# EAGLE library part BUCK-TS30011-12-13 (library TS30013)
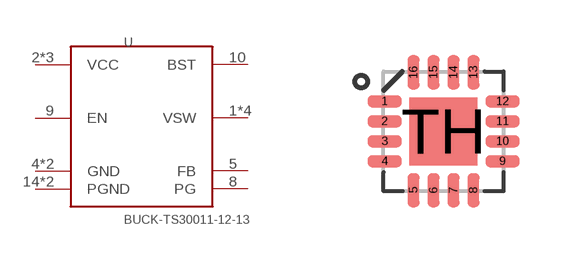
[diagram p0: symbol with the pads of QFN16-3X3-TI-RTE; footprint QFN16-3X3-TI-RTE]

Designator prefix U

## BUCK-TS30011-12-13QFN  [QFN16-3X3-TI-RTE]
1  VSW
2  VCC
3  VCC
4  GND
5  FB
8  PG
9  EN
10  BST
11  VCC
12  VSW
13  VSW
14  PGND
15  PGND
16  VSW
TH  GND

## Footprint QFN16-3X3-TI-RTE (pad centres in mm)
3x3 mm
smd 0.85 x 0.3: 1 -1.475,0.75; 2 -1.475,0.25; 3 -1.475,-0.25; 4 -1.475,-0.75; 9 1.475,-0.75; 10 1.475,-0.25; 11 1.475,0.25; 12 1.475,0.75
smd 0.3 x 0.85: 5 -0.75,-1.475; 6 -0.25,-1.475; 7 0.25,-1.475; 8 0.75,-1.475; 13 0.75,1.475; 14 0.25,1.475; 15 -0.25,1.475; 16 -0.75,1.475
smd 1.7 x 1.7: TH 0,0